# EAGLE library part SUPERMINI (library UNIT_Biblioteca_Modulos)
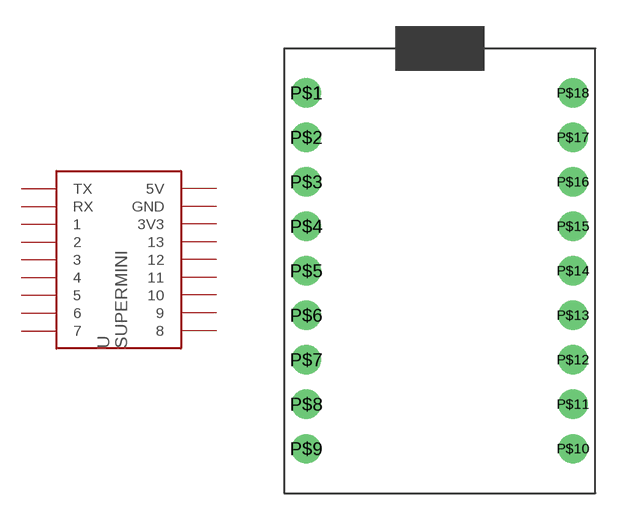
[diagram p12: symbol with the pads of SUPERMINI; footprint SUPERMINI]

Designator prefix -

## SUPERMINI  [SUPERMINI]
P$1  TX
P$2  RX
P$3  1
P$4  2
P$5  3
P$6  4
P$7  5
P$8  6
P$9  7
P$10  8
P$11  9
P$12  10
P$13  11
P$14  12
P$15  13
P$16  3V3
P$17  GND
P$18  5V

## Footprint SUPERMINI (pad centres in mm)
drill 1 pad 1.676: P$1 0,15.24; P$2 0,12.7; P$3 0,10.16; P$4 0,7.62; P$5 0,5.08; P$6 0,2.54; P$7 0,0; P$8 0,-2.54; P$9 0,-5.08; P$10 15.24,-5.08; P$11 15.24,-2.54; P$12 15.24,0; P$13 15.24,2.54; P$14 15.24,5.08; P$15 15.24,7.62; P$16 15.24,10.16; P$17 15.24,12.7; P$18 15.24,15.24